# Altium schematic symbol library IC_TC1016.SchLib: 1 symbol
Pins are listed as number, name and electrical type; pins without a type are passive.

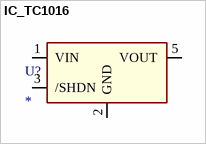
[diagram p0: symbol IC_TC1016]

## IC_TC1016
designator U?
pins: 1 VIN, 2 GND, 3 /SHDN, 5 VOUT